# EAGLE library part SAM3UXC (library nonolith)
SAM3UXC Auto generated by make-symbol-device-package-bsdl.ulp Rev. 43 Source: sam3u_lqfp100.csv
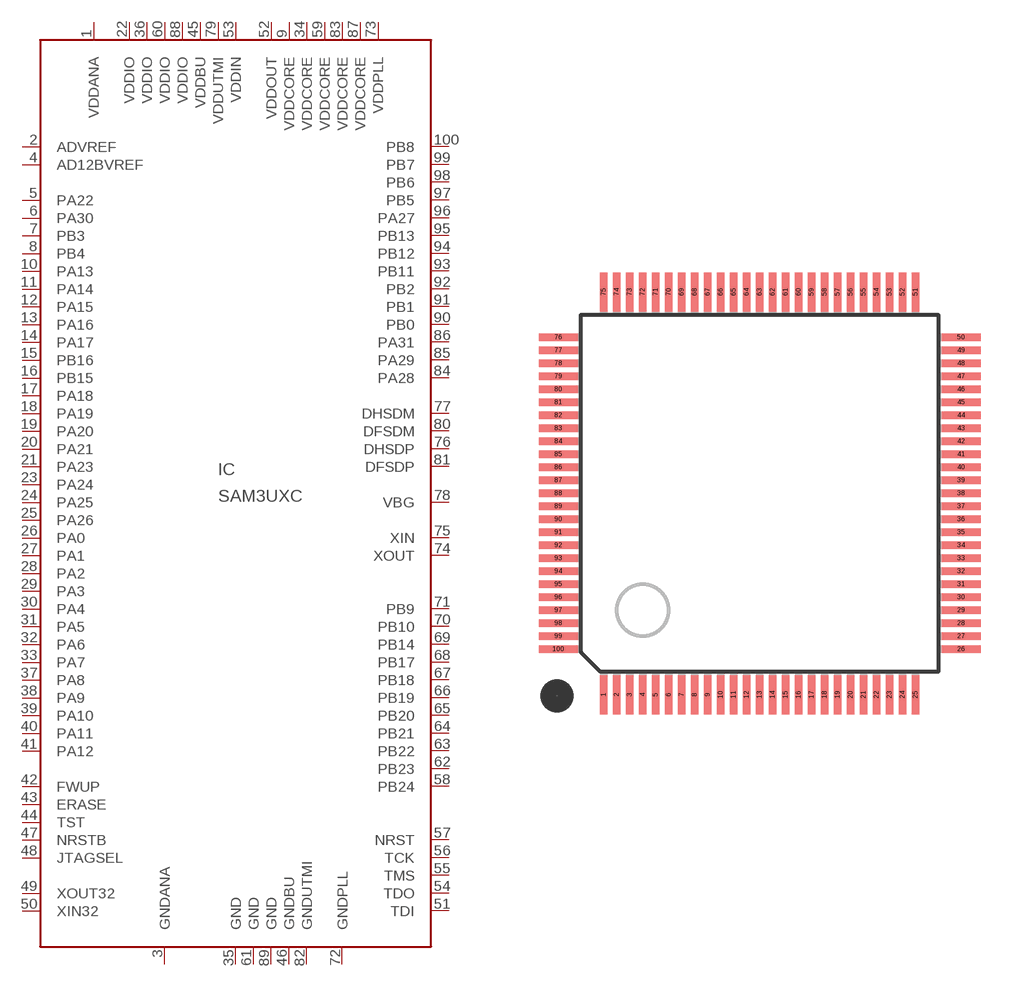
[diagram p29: symbol with the pads of LQFP100; footprint LQFP100]

Designator prefix IC

## SAM3UXC  [LQFP100]
1  VDDANA  pwr
2  ADVREF  pwr
3  GNDANA  pwr
4  AD12BVREF  in
5  PA22
6  PA30
7  PB3
8  PB4
9  VDDCORE  pwr
10  PA13
11  PA14
12  PA15
13  PA16
14  PA17
15  PB16
16  PB15
17  PA18
18  PA19
19  PA20
20  PA21
21  PA23
22  VDDIO  pwr
23  PA24
24  PA25
25  PA26
26  PA0
27  PA1
28  PA2
29  PA3
30  PA4
31  PA5
32  PA6
33  PA7
34  VDDCORE  pwr
35  GND  pwr
36  VDDIO  pwr
37  PA8
38  PA9
39  PA10
40  PA11
41  PA12
42  FWUP  pas
43  ERASE  pas
44  TST  in
45  VDDBU  pwr
46  GNDBU  pwr
47  NRSTB  pas
48  JTAGSEL  in
49  XOUT32  pas
50  XIN32  pas
51  TDI  in
52  VDDOUT  pwr
53  VDDIN  pwr
54  TDO  out
55  TMS  in
56  TCK  in
57  NRST  in
58  PB24
59  VDDCORE  pwr
60  VDDIO  pwr
61  GND  pwr
62  PB23
63  PB22
64  PB21
65  PB20
66  PB19
67  PB18
68  PB17
69  PB14
70  PB10
71  PB9
72  GNDPLL  pwr
73  VDDPLL  pwr
74  XOUT  pas
75  XIN  pas
76  DHSDP  pas
77  DHSDM  pas
78  VBG  pwr
79  VDDUTMI  pwr
80  DFSDM  pas
81  DFSDP  pas
82  GNDUTMI  pwr
83  VDDCORE  pwr
84  PA28
85  PA29
86  PA31
87  VDDCORE  pwr
88  VDDIO  pwr
89  GND  pwr
90  PB0
91  PB1
92  PB2
93  PB11
94  PB12
95  PB13
96  PA27
97  PB5
98  PB6
99  PB7
100  PB8

## Footprint LQFP100 (pad centres in mm)
LQFP100 Low Profile Quad Flat Package 14x14x1.4 mm
smd 0.27 x 1.5: 1 -6,-7.75; 2 -5.5,-7.75; 3 -5,-7.75; 4 -4.5,-7.75; 5 -4,-7.75; 6 -3.5,-7.75; 7 -3,-7.75; 8 -2.5,-7.75; 9 -2,-7.75; 10 -1.5,-7.75; 11 -1,-7.75; 12 -0.5,-7.75; 13 0,-7.75; 14 0.5,-7.75; 15 1,-7.75; 16 1.5,-7.75; 17 2,-7.75; 18 2.5,-7.75; 19 3,-7.75; 20 3.5,-7.75; 21 4,-7.75; 22 4.5,-7.75; 23 5,-7.75; 24 5.5,-7.75; 25 6,-7.75; 51 6,7.75; 52 5.5,7.75; 53 5,7.75; 54 4.5,7.75; 55 4,7.75; 56 3.5,7.75; 57 3,7.75; 58 2.5,7.75; 59 2,7.75; 60 1.5,7.75; 61 1,7.75; 62 0.5,7.75; 63 0,7.75; 64 -0.5,7.75; 65 -1,7.75; 66 -1.5,7.75; 67 -2,7.75; 68 -2.5,7.75; 69 -3,7.75; 70 -3.5,7.75; 71 -4,7.75; 72 -4.5,7.75; 73 -5,7.75; 74 -5.5,7.75; 75 -6,7.75
smd 1.5 x 0.27: 26 7.75,-6; 27 7.75,-5.5; 28 7.75,-5; 29 7.75,-4.5; 30 7.75,-4; 31 7.75,-3.5; 32 7.75,-3; 33 7.75,-2.5; 34 7.75,-2; 35 7.75,-1.5; 36 7.75,-1; 37 7.75,-0.5; 38 7.75,0; 39 7.75,0.5; 40 7.75,1; 41 7.75,1.5; 42 7.75,2; 43 7.75,2.5; 44 7.75,3; 45 7.75,3.5; 46 7.75,4; 47 7.75,4.5; 48 7.75,5; 49 7.75,5.5; 50 7.75,6; 76 -7.75,6; 77 -7.75,5.5; 78 -7.75,5; 79 -7.75,4.5; 80 -7.75,4; 81 -7.75,3.5; 82 -7.75,3; 83 -7.75,2.5; 84 -7.75,2; 85 -7.75,1.5; 86 -7.75,1; 87 -7.75,0.5; 88 -7.75,0; 89 -7.75,-0.5; 90 -7.75,-1; 91 -7.75,-1.5; 92 -7.75,-2; 93 -7.75,-2.5; 94 -7.75,-3; 95 -7.75,-3.5; 96 -7.75,-4; 97 -7.75,-4.5; 98 -7.75,-5; 99 -7.75,-5.5; 100 -7.75,-6